# EAGLE library part TE-C967288 (library k-data Mechanik)
TE-C2967288 MQS/JPT ST-WANN134P
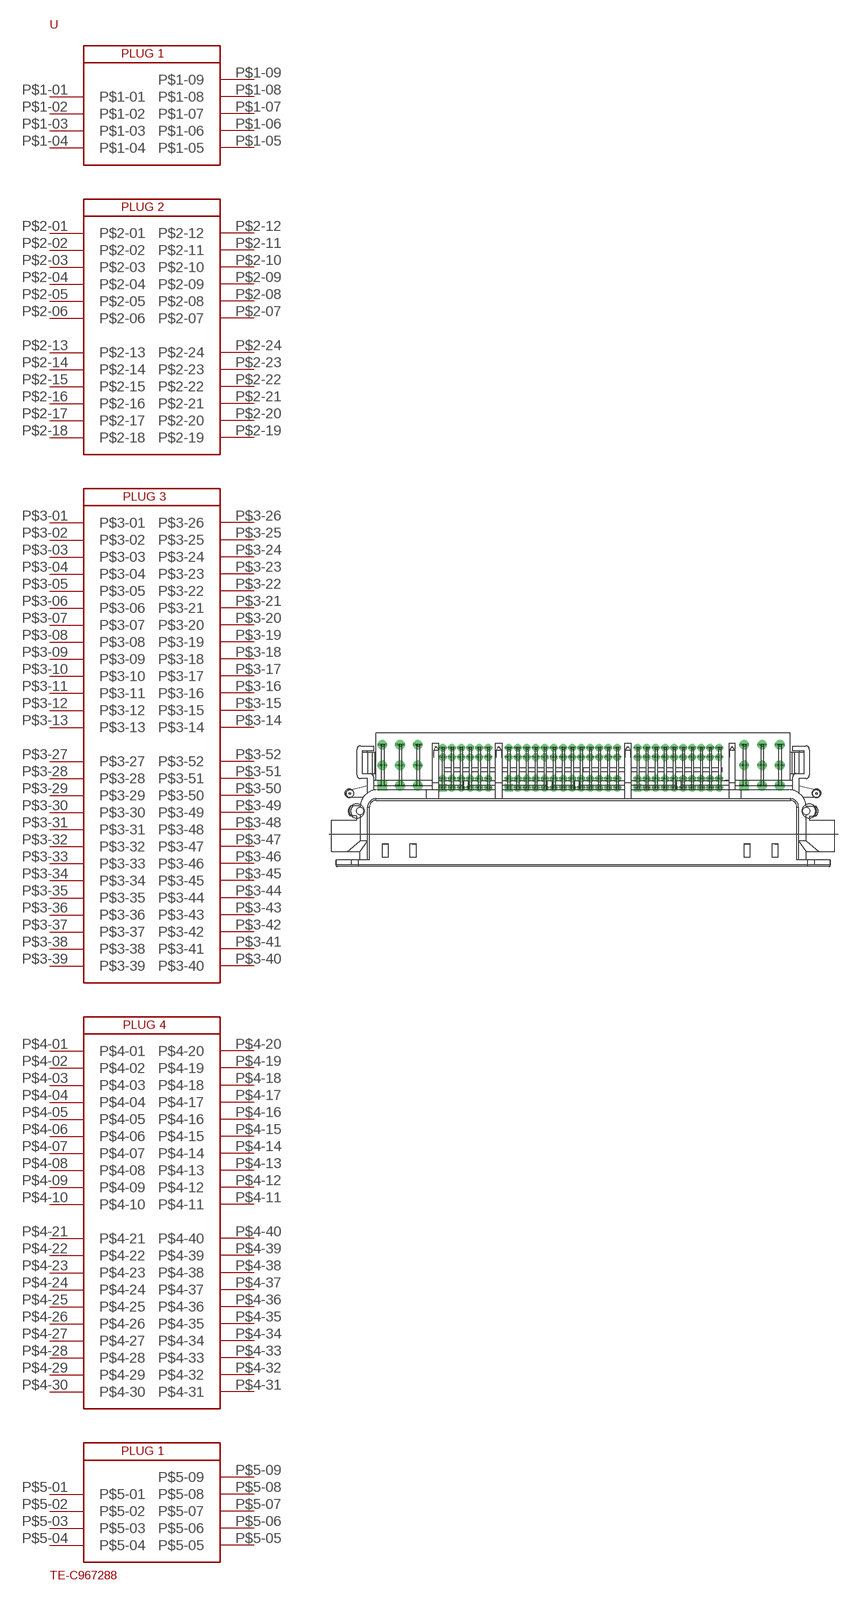
[diagram p14: symbol with the pads of TE-C967288; footprint TE-C967288]

Designator prefix -

## TE-C967288  [TE-C967288]
P$1-01  P$1-01
P$1-02  P$1-02
P$1-03  P$1-03
P$1-04  P$1-04
P$1-05  P$1-05
P$1-06  P$1-06
P$1-07  P$1-07
P$1-08  P$1-08
P$1-09  P$1-09
P$2-01  P$2-01
P$2-02  P$2-02
P$2-03  P$2-03
P$2-04  P$2-04
P$2-05  P$2-05
P$2-06  P$2-06
P$2-07  P$2-07
P$2-08  P$2-08
P$2-09  P$2-09
P$2-10  P$2-10
P$2-11  P$2-11
P$2-12  P$2-12
P$2-13  P$2-13
P$2-14  P$2-14
P$2-15  P$2-15
P$2-16  P$2-16
P$2-17  P$2-17
P$2-18  P$2-18
P$2-19  P$2-19
P$2-20  P$2-20
P$2-21  P$2-21
P$2-22  P$2-22
P$2-23  P$2-23
P$2-24  P$2-24
P$3-01  P$3-01
P$3-02  P$3-02
P$3-03  P$3-03
P$3-04  P$3-04
P$3-05  P$3-05
P$3-06  P$3-06
P$3-07  P$3-07
P$3-08  P$3-08
P$3-09  P$3-09
P$3-10  P$3-10
P$3-11  P$3-11
P$3-12  P$3-12
P$3-13  P$3-13
P$3-14  P$3-14
P$3-15  P$3-15
P$3-16  P$3-16
P$3-17  P$3-17
P$3-18  P$3-18
P$3-19  P$3-19
P$3-20  P$3-20
P$3-21  P$3-21
P$3-22  P$3-22
P$3-23  P$3-23
P$3-24  P$3-24
P$3-25  P$3-25
P$3-26  P$3-26
P$3-27  P$3-27
P$3-28  P$3-28
P$3-29  P$3-29
P$3-30  P$3-30
P$3-31  P$3-31
P$3-32  P$3-32
P$3-33  P$3-33
P$3-34  P$3-34
P$3-35  P$3-35
P$3-36  P$3-36
P$3-37  P$3-37
P$3-38  P$3-38
P$3-39  P$3-39
P$3-40  P$3-40
P$3-41  P$3-41
P$3-42  P$3-42
P$3-43  P$3-43
P$3-44  P$3-44
P$3-45  P$3-45
P$3-46  P$3-46
P$3-47  P$3-47
P$3-48  P$3-48
P$3-49  P$3-49
P$3-50  P$3-50
P$3-51  P$3-51
P$3-52  P$3-52
P$4-01  P$4-01
P$4-02  P$4-02
P$4-03  P$4-03
P$4-04  P$4-04
P$4-05  P$4-05
P$4-06  P$4-06
P$4-07  P$4-07
P$4-08  P$4-08
P$4-09  P$4-09
P$4-10  P$4-10
P$4-11  P$4-11
P$4-12  P$4-12
P$4-13  P$4-13
P$4-14  P$4-14
P$4-15  P$4-15
P$4-16  P$4-16
P$4-17  P$4-17
P$4-18  P$4-18
P$4-19  P$4-19
P$4-20  P$4-20
P$4-21  P$4-21
P$4-22  P$4-22
P$4-23  P$4-23
P$4-24  P$4-24
P$4-25  P$4-25
P$4-26  P$4-26
P$4-27  P$4-27
P$4-28  P$4-28
P$4-29  P$4-29
P$4-30  P$4-30
P$4-31  P$4-31
P$4-32  P$4-32
P$4-33  P$4-33
P$4-34  P$4-34
P$4-35  P$4-35
P$4-36  P$4-36
P$4-37  P$4-37
P$4-38  P$4-38
P$4-39  P$4-39
P$4-40  P$4-40
P$5-01  P$5-01
P$5-02  P$5-02
P$5-03  P$5-03
P$5-04  P$5-04
P$5-05  P$5-05
P$5-06  P$5-06
P$5-07  P$5-07
P$5-08  P$5-08
P$5-09  P$5-09

## Footprint TE-C967288 (pad centres in mm)
drill 1.8 square: P$1-01 0,0; P$5-01 101.4,0
drill 1.8: P$1-02 5,0; P$1-03 10,0; P$1-04 0,5.7; P$1-05 5,5.7; P$1-06 10,5.7; P$1-07 0,11.4; P$1-08 5,11.4; P$1-09 10,11.4; P$5-02 106.4,0; P$5-03 111.4,0; P$5-04 101.4,5.7; P$5-05 106.4,5.7; P$5-06 111.4,5.7; P$5-07 101.4,11.4; P$5-08 106.4,11.4; P$5-09 111.4,11.4
drill 1.4 square: P$2-01 17,-0.6; P$3-01 35.4,-0.6; P$4-01 71.6,-0.6
drill 1.4: P$2-02 19.54,-0.6; P$2-03 22.08,-0.6; P$2-04 24.62,-0.6; P$2-05 27.16,-0.6; P$2-06 29.7,-0.6; P$2-07 17,1.94; P$2-08 19.54,1.94; P$2-09 22.08,1.94; P$2-10 24.62,1.94; P$2-11 27.16,1.94; P$2-12 29.7,1.94; P$2-13 17,7.99; P$2-14 19.54,7.99; P$2-15 22.08,7.99; P$2-16 24.62,7.99; P$2-17 27.16,7.99; P$2-18 29.7,7.99; P$2-19 17,10.53; P$2-20 19.54,10.53; P$2-21 22.08,10.53; P$2-22 24.62,10.53; P$2-23 27.16,10.53; P$2-24 29.7,10.53; P$3-02 37.94,-0.6; P$3-03 40.48,-0.6; P$3-04 43.02,-0.6; P$3-05 45.56,-0.6; P$3-06 48.1,-0.6; P$3-07 50.64,-0.6; P$3-08 53.18,-0.6; P$3-09 55.72,-0.6; P$3-10 58.26,-0.6; P$3-11 60.8,-0.6; P$3-12 63.34,-0.6; P$3-13 65.88,-0.6; P$3-14 35.4,1.94; P$3-15 37.94,1.94; P$3-16 40.48,1.94; P$3-17 43.02,1.94; P$3-18 45.56,1.94; P$3-19 48.1,1.94; P$3-20 50.64,1.94; P$3-21 53.18,1.94; P$3-22 55.72,1.94; P$3-23 58.26,1.94; P$3-24 60.8,1.94; P$3-25 63.34,1.94; P$3-26 65.88,1.94; P$3-27 35.4,7.99; P$3-28 37.94,7.99; P$3-29 40.48,7.99; P$3-30 43.02,7.99; P$3-31 45.56,7.99; P$3-32 48.1,7.99; P$3-33 50.64,7.99; P$3-34 53.18,7.99; P$3-35 55.72,7.99; P$3-36 58.26,7.99; P$3-37 60.8,7.99; P$3-38 63.34,7.99; P$3-39 65.88,7.99; P$3-40 35.4,10.53; P$3-41 37.94,10.53; P$3-42 40.48,10.53; P$3-43 43.02,10.53; P$3-44 45.56,10.53; P$3-45 48.1,10.53; P$3-46 50.64,10.53; P$3-47 53.18,10.53; P$3-48 55.72,10.53; P$3-49 58.26,10.53; P$3-50 60.8,10.53; P$3-51 63.34,10.53; P$3-52 65.88,10.53; P$4-02 74.14,-0.6; P$4-03 76.68,-0.6; P$4-04 79.22,-0.6; P$4-05 81.76,-0.6; P$4-06 84.3,-0.6; P$4-07 86.84,-0.6; P$4-08 89.38,-0.6; P$4-09 91.92,-0.6; P$4-10 94.46,-0.6; P$4-11 71.6,1.94; P$4-12 74.14,1.94; P$4-13 76.68,1.94; P$4-14 79.22,1.94; P$4-15 81.76,1.94; P$4-16 84.3,1.94; P$4-17 86.84,1.94; P$4-18 89.38,1.94; P$4-19 91.92,1.94; P$4-20 94.46,1.94; P$4-21 71.6,7.99; P$4-22 74.14,7.99; P$4-23 76.68,7.99; P$4-24 79.22,7.99; P$4-25 81.76,7.99; P$4-26 84.3,7.99; P$4-27 86.84,7.99; P$4-28 89.38,7.99; P$4-29 91.92,7.99; P$4-30 94.46,7.99; P$4-31 71.6,10.53; P$4-32 74.14,10.53; P$4-33 76.68,10.53; P$4-34 79.22,10.53; P$4-35 81.76,10.53; P$4-36 84.3,10.53; P$4-37 86.84,10.53; P$4-38 89.38,10.53; P$4-39 91.92,10.53; P$4-40 94.46,10.53
hole 2.4 at 121.7,-2.2
hole 2.4 at -9.2,-2.2
hole 4 at -7.15,-7.15
hole 4 at 119.65,-7.15